# Altium footprint library LM27313.PcbLib: 3 footprints
Each footprint in its own frame and in the unit in brackets; x right, y up, seen from the top. Pads: shape width x height; smd on the part's side, far side on the other; paste and mask are expansions set on the pad; w line width, h text height; cw(c..) or ccw(c..) is an arc to the next point about the centre after c.
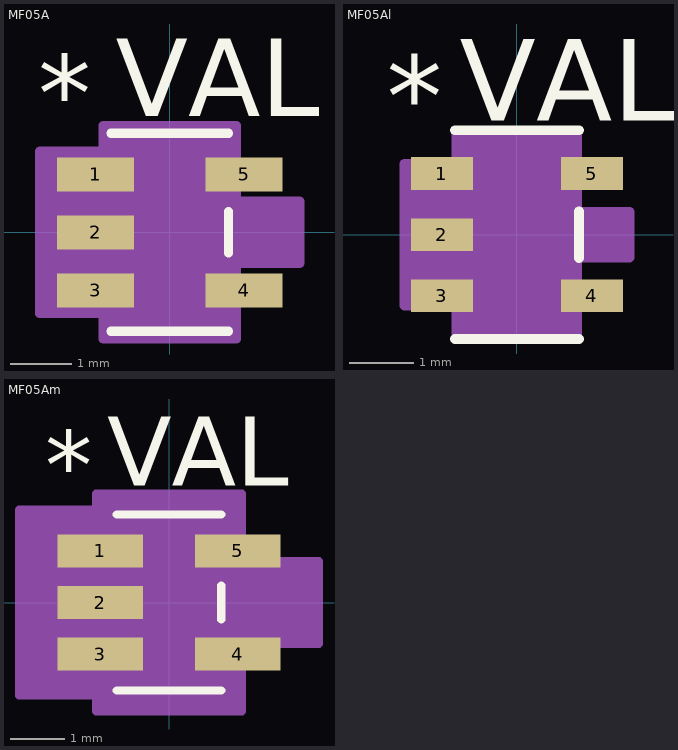
[diagram p0: the footprints below, top view; thin cyan lines are the x and y axes]

## MF05A [mil]
pads (5):
  rect 50x22 smd: 1(-48,37.5) 2(-48,0) 3(-48,-37.5) 4(48,-37.5) 5(48,37.5)
Top Overlay:
  lines w6: -38,-64 38,-64 ; -38,64 38,64 ; 38,-13.4 38,13.4
  text "VAL" at -35,75 h50
  text "*" at -85,65 h50
Mechanical 13:
  text "*" at -85,65 h50
Mechanical 15:
  region: 43,-69 -43,-69 -43,-52.5 -84,-52.5 -84,52.5 -43,52.5 -43,69 43,69 43,20 84,20 84,-20 43,-20
  lines w6: -84,-52.5 -84,52.5 -43,52.5 -43,69 43,69 43,20 84,20 84,-20 43,-20 43,-69 -43,-69 -43,-52.5 -84,-52.5
Multi-Layer:
  text "Copyright (C) 2015 Accelerated Designs. All rights reserved" at 0,0 h1

## MF05Al [mil]
pads (5):
  rect 38x20 smd: 1(-46,37.5) 2(-46,0) 3(-46,-37.5) 4(46,-37.5) 5(46,37.5)
Top Overlay:
  lines w6: -38,-64 38,-64 ; -38,64 38,64 ; 38,-14.4 38,14.4
  text "VAL" at -35,70 h50
  text "*" at -80,60 h50
Mechanical 13:
  text "*" at -80,60 h50
Mechanical 15:
  region: 37,-63 -37,-63 -37,-43.5 -69,-43.5 -69,43.5 -37,43.5 -37,63 37,63 37,14 69,14 69,-14 37,-14
  lines w6: -69,-43.5 -69,43.5 -37,43.5 -37,63 37,63 37,14 69,14 69,-14 37,-14 37,-63 -37,-63 -37,-43.5 -69,-43.5
Multi-Layer:
  text "Copyright (C) 2015 Accelerated Designs. All rights reserved" at 0,0 h1

## MF05Am [mil]
pads (5):
  rect 62x24 smd: 1(-50,37.5) 2(-50,0) 3(-50,-37.5) 4(50,-37.5) 5(50,37.5)
Top Overlay:
  lines w6: -38,-64 38,-64 ; -38,64 38,64 ; 38,-12.4 38,12.4
  text "VAL" at -45,85 h50
  text "*" at -90,75 h50
Mechanical 13:
  text "*" at -90,75 h50
Mechanical 15:
  region: 53,-79 -53,-79 -53,-67.5 -109,-67.5 -109,67.5 -53,67.5 -53,79 53,79 53,30 109,30 109,-30 53,-30
  lines w6: -109,-67.5 -109,67.5 -53,67.5 -53,79 53,79 53,30 109,30 109,-30 53,-30 53,-79 -53,-79 -53,-67.5 -109,-67.5
Multi-Layer:
  text "Copyright (C) 2015 Accelerated Designs. All rights reserved" at 0,0 h1